# Altium integrated library Connector Header Through Hole 3 position.IntLib: 1 symbol
Pins are listed as number, name and electrical type; pins without a type are passive.

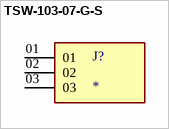
[diagram p0: symbol TSW-103-07-G-S]

## TSW-103-07-G-S
designator J?
MF: Samtec; MP: TSW-103-07-G-S; Value: *; Availability: Unavailable; Price: None; Package: None
footprint SAMTEC_TSW-103-07-G-S
pins: 01, 02, 03